# EAGLE library part RHS2116 (library RHS2000)
Intan Technologies RHS2116 chip
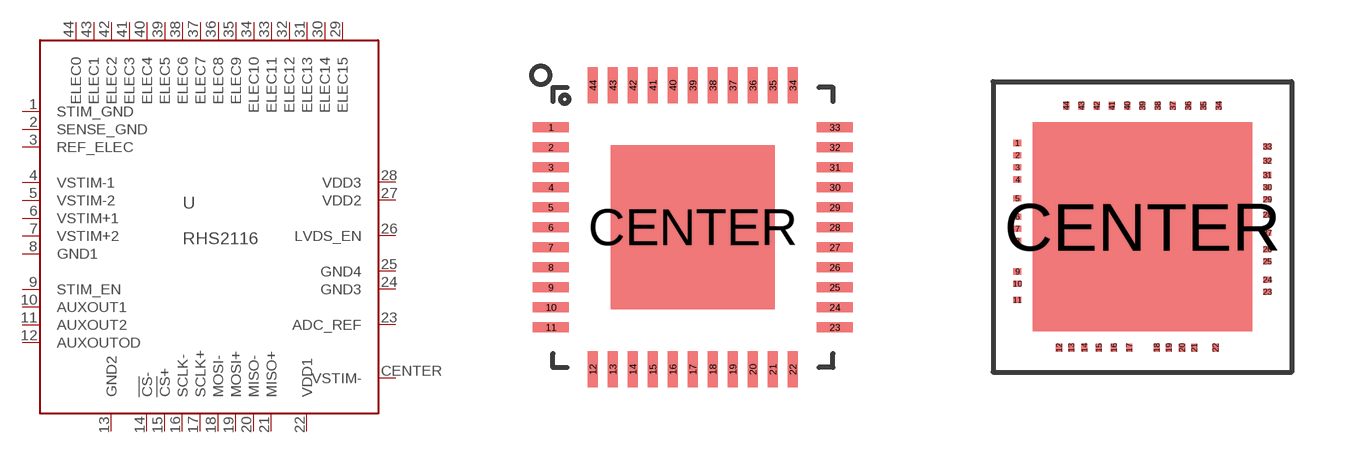
[diagram p1: symbol with the pads of QFN44_7_X_7; footprints QFN44_7_X_7, RHS2000_44PIN_COB]

Designator prefix U

## RHS2116_QFN  [QFN44_7_X_7]
1  STIM_GND  pwr
2  SENSE_GND  pwr
3  REF_ELEC  in
4  VSTIM-1  pwr
5  VSTIM-2  pwr
6  VSTIM+1  pwr
7  VSTIM+2  pwr
8  GND1  pwr
9  STIM_EN  in
10  AUXOUT1  hiz
11  AUXOUT2  hiz
12  AUXOUTOD  oc
13  GND2  pwr
14  !CS!-  in
15  !CS!+  in
16  SCLK-  in
17  SCLK+  in
18  MOSI-  in
19  MOSI+  in
20  MISO-  out
21  MISO+  out
22  VDD1  pwr
23  ADC_REF  pas
24  GND3  pwr
25  GND4  pwr
26  LVDS_EN  in
27  VDD2  pwr
28  VDD3  pwr
29  ELEC15
30  ELEC14
31  ELEC13
32  ELEC12
33  ELEC11
34  ELEC10
35  ELEC9
36  ELEC8
37  ELEC7
38  ELEC6
39  ELEC5
40  ELEC4
41  ELEC3
42  ELEC2
43  ELEC1
44  ELEC0
CENTER  VSTIM-  pwr

## RHS2116_COB  [RHS2000_44PIN_COB]
Pads as for QFN44_7_X_7

## RHS2116_ZIF  [ZIF_QFN44_7_X_7_MLF00044A]
Pads as for QFN44_7_X_7

## Footprint QFN44_7_X_7 (pad centres in mm)
smd 0.9 x 0.25: 1 -3.55,2.5; 2 -3.55,2; 3 -3.55,1.5; 4 -3.55,1; 5 -3.55,0.5; 6 -3.55,0; 7 -3.55,-0.5; 8 -3.55,-1; 9 -3.55,-1.5; 10 -3.55,-2; 11 -3.55,-2.5; 23 3.55,-2.5; 24 3.55,-2; 25 3.55,-1.5; 26 3.55,-1; 27 3.55,-0.5; 28 3.55,0; 29 3.55,0.5; 30 3.55,1; 31 3.55,1.5; 32 3.55,2; 33 3.55,2.5
smd 0.25 x 0.9: 12 -2.5,-3.55; 13 -2,-3.55; 14 -1.5,-3.55; 15 -1,-3.55; 16 -0.5,-3.55; 17 0,-3.55; 18 0.5,-3.55; 19 1,-3.55; 20 1.5,-3.55; 21 2,-3.55; 22 2.5,-3.55; 34 2.5,3.55; 35 2,3.55; 36 1.5,3.55; 37 1,3.55; 38 0.5,3.55; 39 0,3.55; 40 -0.5,3.55; 41 -1,3.55; 42 -1.5,3.55; 43 -2,3.55; 44 -2.5,3.55
smd 4.1 x 4.1: CENTER 0,0

## Footprint RHS2000_44PIN_COB (pad centres in mm)
smd 0.203 x 0.152: 1 -3.124,2.095; 2 -3.124,1.791; 3 -3.124,1.486; 4 -3.124,1.181; 5 -3.124,0.711; 6 -3.124,0.254; 7 -3.124,-0.051; 8 -3.124,-0.356; 9 -3.124,-1.118; 10 -3.124,-1.422; 11 -3.124,-1.829; 23 3.124,-1.626; 24 3.124,-1.321; 25 3.124,-0.864; 26 3.124,-0.559; 27 3.124,-0.152; 28 3.124,0.305; 29 3.124,0.686; 30 3.124,0.991; 31 3.124,1.295; 32 3.124,1.651; 33 3.124,2.007
smd 0.152 x 0.203: 12 -2.083,-3.023; 13 -1.778,-3.023; 14 -1.448,-3.023; 15 -1.092,-3.023; 16 -0.711,-3.023; 17 -0.33,-3.023; 18 0.356,-3.023; 19 0.66,-3.023; 20 0.991,-3.023; 21 1.295,-3.023; 22 1.829,-3.023; 34 1.905,3.023; 35 1.524,3.023; 36 1.143,3.023; 37 0.762,3.023; 38 0.381,3.023; 39 0,3.023; 40 -0.381,3.023; 41 -0.762,3.023; 42 -1.143,3.023; 43 -1.524,3.023; 44 -1.905,3.023
smd 5.486 x 5.232: CENTER 0,0

## Footprint ZIF_QFN44_7_X_7_MLF00044A (pad centres in mm)
drill 0.41 pad 0.813: 1 2.5,5.37; 2 2,3.85; 3 1.5,5.37; 4 1,3.85; 5 0.5,5.37; 6 0,3.85; 7 -0.5,5.37; 8 -1,3.85; 9 -1.5,5.37; 10 -2,3.85; 11 -2.5,5.37; 12 -5.37,2.5; 13 -3.85,2; 14 -5.37,1.5; 15 -3.85,1; 16 -5.37,0.5; 17 -3.85,0; 18 -5.37,-0.5; 19 -3.85,-1; 20 -5.37,-1.5; 21 -3.85,-2; 22 -5.37,-2.5; 23 -2.5,-5.37; 24 -2,-3.85; 25 -1.5,-5.37; 26 -1,-3.85; 27 -0.5,-5.37; 28 0,-3.85; 29 0.5,-5.37; 30 1,-3.85; 31 1.5,-5.37; 32 2,-3.85; 33 2.5,-5.37; 34 5.37,-2.5; 35 3.85,-2; 36 5.37,-1.5; 37 3.85,-1; 38 5.37,-0.5; 39 3.85,0; 40 5.37,0.5; 41 3.85,1; 42 5.37,1.5; 43 3.85,2; 44 5.37,2.5
drill 2.45 pad 3.7: CENTER 0,0
hole 2 at 6.22,6.22
hole 1.6 at -6.23,-6.23